# EAGLE library part AD5932 (library analogdevices-dds)
Programmable Frequency Scan Waveform Generator Output frequency up to 25 MHz Serial Interface
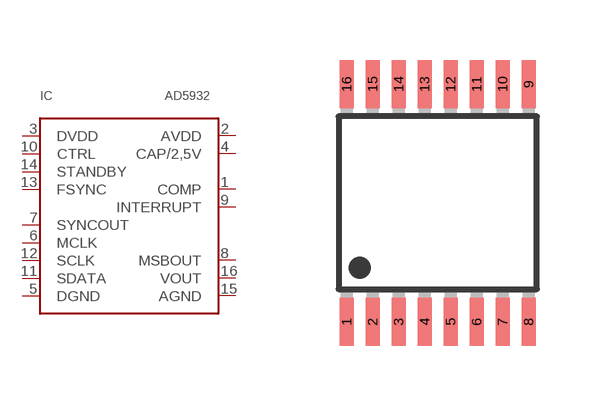
[diagram p3: symbol with the pads of TSSOP16; footprint TSSOP16]

Designator prefix IC

## AD5932  [TSSOP16]
1  COMP
2  AVDD  pwr
3  DVDD  pwr
4  CAP/2,5V
5  DGND  pwr
6  MCLK
7  SYNCOUT
8  MSBOUT
9  INTERRUPT
10  CTRL
11  SDATA
12  SCLK
13  FSYNC
14  STANDBY
15  AGND  pwr
16  VOUT

## Footprint TSSOP16 (pad centres in mm)
smd 0.35 x 1.2: 1 -2.275,-2.97; 2 -1.625,-2.97; 3 -0.975,-2.97; 4 -0.325,-2.97; 5 0.325,-2.97; 6 0.975,-2.97; 7 1.625,-2.97; 8 2.275,-2.97; 9 2.275,2.97; 10 1.625,2.97; 11 0.975,2.97; 12 0.325,2.97; 13 -0.325,2.97; 14 -0.975,2.97; 15 -1.625,2.97; 16 -2.275,2.97